# Altium schematic symbol library Rowres.SchLib: 1 symbol
Pins are listed as number, name and electrical type; pins without a type are passive.

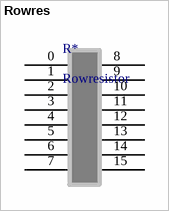
[diagram p0: symbol Rowres]

## Rowres
designator R*, comment Rowresistor
Row resistor, 8
footprint Rowres (Row resistor, 8)
pins: 0, 1, 2, 3, 4, 5, 6, 7, 8, 9, 10, 11, 12, 13, 14, 15